# EAGLE library part HEADER-2X5 (library old-4ms-main-parts)
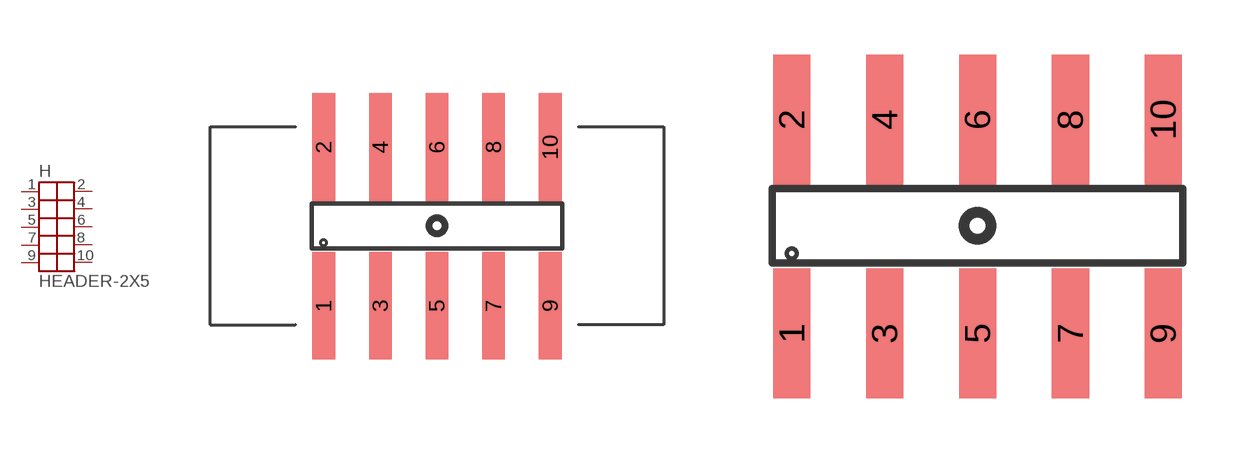
[diagram p8: symbol with the pads of HEADER-2X5-SMT-SHROUDED; footprints HEADER-2X5-SMT-SHROUDED, HEADER-2X5-SMT]

Designator prefix H

## HEADER-2X5SMT-SH  [HEADER-2X5-SMT-SHROUDED]
1  P$1
2  P$2
3  P$3
4  P$4
5  P$5
6  P$6
7  P$7
8  P$8
9  P$9
10  P$10

## HEADER-2X5SMT  [HEADER-2X5-SMT]
Pads as for HEADER-2X5-SMT-SHROUDED

## Footprint HEADER-2X5-SMT-SHROUDED (pad centres in mm)
smd 1.016 x 4.826: 1 -5.08,-3.585; 2 -5.08,3.534; 3 -2.54,-3.585; 4 -2.54,3.534; 5 0,-3.585; 6 0,3.534; 7 2.54,-3.585; 8 2.54,3.534; 9 5.08,-3.585; 10 5.08,3.534

## Footprint HEADER-2X5-SMT (pad centres in mm)
smd 1.016 x 3.556: 1 -5.08,-2.95; 2 -5.08,2.899; 3 -2.54,-2.95; 4 -2.54,2.899; 5 0,-2.95; 6 0,2.899; 7 2.54,-2.95; 8 2.54,2.899; 9 5.08,-2.95; 10 5.08,2.899